# EAGLE library part ADSP_21368 (library analog-devices-3)
SHARC Processor Auto generated by make-symbol-device-package-bsdl.ulp Rev. 33 Source: 78445023821368_256ballSBGA_bsdl_PrA_0206.txt http://www.analog.com/static/imported-files/data_sheets/ADSP-21367_21368_21369.pdf
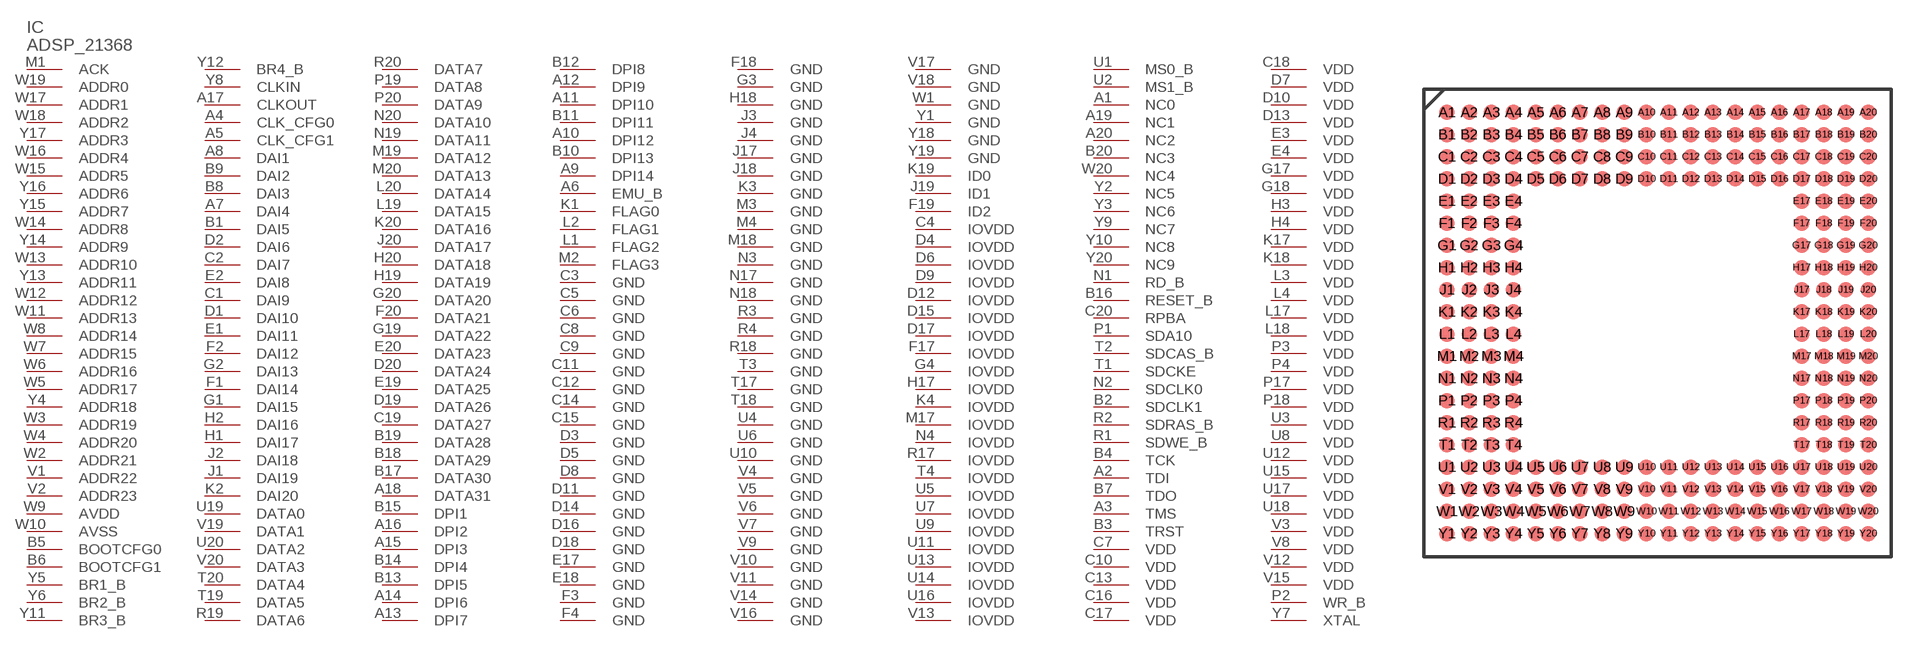
[diagram p132: symbol with the pads of BGA_256; footprint BGA_256]

Designator prefix IC

## ADSP_21368  [BGA_256]
A1  NC0  pas
A2  TDI  in
A3  TMS  in
A4  CLK_CFG0  in
A5  CLK_CFG1  in
A6  EMU_B  out
A7  DAI4
A8  DAI1
A9  DPI14
A10  DPI12
A11  DPI10
A12  DPI9
A13  DPI7
A14  DPI6
A15  DPI3
A16  DPI2
A17  CLKOUT  out
A18  DATA31
A19  NC1  pas
A20  NC2  pas
B1  DAI5
B2  SDCLK1
B3  TRST  in
B4  TCK  in
B5  BOOTCFG0  in
B6  BOOTCFG1  in
B7  TDO  out
B8  DAI3
B9  DAI2
B10  DPI13
B11  DPI11
B12  DPI8
B13  DPI5
B14  DPI4
B15  DPI1
B16  RESET_B  in
B17  DATA30
B18  DATA29
B19  DATA28
B20  NC3  pas
C1  DAI9
C2  DAI7
C3  GND  pwr
C4  IOVDD  pwr
C5  GND  pwr
C6  GND  pwr
C7  VDD  pwr
C8  GND  pwr
C9  GND  pwr
C10  VDD  pwr
C11  GND  pwr
C12  GND  pwr
C13  VDD  pwr
C14  GND  pwr
C15  GND  pwr
C16  VDD  pwr
C17  VDD  pwr
C18  VDD  pwr
C19  DATA27
C20  RPBA  in
D1  DAI10
D2  DAI6
D3  GND  pwr
D4  IOVDD  pwr
D5  GND  pwr
D6  IOVDD  pwr
D7  VDD  pwr
D8  GND  pwr
D9  IOVDD  pwr
D10  VDD  pwr
D11  GND  pwr
D12  IOVDD  pwr
D13  VDD  pwr
D14  GND  pwr
D15  IOVDD  pwr
D16  GND  pwr
D17  IOVDD  pwr
D18  GND  pwr
D19  DATA26
D20  DATA24
E1  DAI11
E2  DAI8
E3  VDD  pwr
E4  VDD  pwr
E17  GND  pwr
E18  GND  pwr
E19  DATA25
E20  DATA23
F1  DAI14
F2  DAI12
F3  GND  pwr
F4  GND  pwr
F17  IOVDD  pwr
F18  GND  pwr
F19  ID2  in
F20  DATA21
G1  DAI15
G2  DAI13
G3  GND  pwr
G4  IOVDD  pwr
G17  VDD  pwr
G18  VDD  pwr
G19  DATA22
G20  DATA20
H1  DAI17
H2  DAI16
H3  VDD  pwr
H4  VDD  pwr
H17  IOVDD  pwr
H18  GND  pwr
H19  DATA19
H20  DATA18
J1  DAI19
J2  DAI18
J3  GND  pwr
J4  GND  pwr
J17  GND  pwr
J18  GND  pwr
J19  ID1  in
J20  DATA17
K1  FLAG0
K2  DAI20
K3  GND  pwr
K4  IOVDD  pwr
K17  VDD  pwr
K18  VDD  pwr
K19  ID0  in
K20  DATA16
L1  FLAG2
L2  FLAG1
L3  VDD  pwr
L4  VDD  pwr
L17  VDD  pwr
L18  VDD  pwr
L19  DATA15
L20  DATA14
M1  ACK  in
M2  FLAG3
M3  GND  pwr
M4  GND  pwr
M17  IOVDD  pwr
M18  GND  pwr
M19  DATA12
M20  DATA13
N1  RD_B  out
N2  SDCLK0
N3  GND  pwr
N4  IOVDD  pwr
N17  GND  pwr
N18  GND  pwr
N19  DATA11
N20  DATA10
P1  SDA10  out
P2  WR_B  out
P3  VDD  pwr
P4  VDD  pwr
P17  VDD  pwr
P18  VDD  pwr
P19  DATA8
P20  DATA9
R1  SDWE_B  out
R2  SDRAS_B  out
R3  GND  pwr
R4  GND  pwr
R17  IOVDD  pwr
R18  GND  pwr
R19  DATA6
R20  DATA7
T1  SDCKE  out
T2  SDCAS_B  out
T3  GND  pwr
T4  IOVDD  pwr
T17  GND  pwr
T18  GND  pwr
T19  DATA5
T20  DATA4
U1  MS0_B  out
U2  MS1_B  out
U3  VDD  pwr
U4  GND  pwr
U5  IOVDD  pwr
U6  GND  pwr
U7  IOVDD  pwr
U8  VDD  pwr
U9  IOVDD  pwr
U10  GND  pwr
U11  IOVDD  pwr
U12  VDD  pwr
U13  IOVDD  pwr
U14  IOVDD  pwr
U15  VDD  pwr
U16  IOVDD  pwr
U17  VDD  pwr
U18  VDD  pwr
U19  DATA0
U20  DATA2
V1  ADDR22  out
V2  ADDR23  out
V3  VDD  pwr
V4  GND  pwr
V5  GND  pwr
V6  GND  pwr
V7  GND  pwr
V8  VDD  pwr
V9  GND  pwr
V10  GND  pwr
V11  GND  pwr
V12  VDD  pwr
V13  IOVDD  pwr
V14  GND  pwr
V15  VDD  pwr
V16  GND  pwr
V17  GND  pwr
V18  GND  pwr
V19  DATA1
V20  DATA3
W1  GND  pwr
W2  ADDR21  out
W3  ADDR19  out
W4  ADDR20  out
W5  ADDR17  out
W6  ADDR16  out
W7  ADDR15  out
W8  ADDR14  out
W9  AVDD  pwr
W10  AVSS  pwr
W11  ADDR13  out
W12  ADDR12  out
W13  ADDR10  out
W14  ADDR8  out
W15  ADDR5  out
W16  ADDR4  out
W17  ADDR1  out
W18  ADDR2  out
W19  ADDR0  out
W20  NC4  pas
Y1  GND  pwr
Y2  NC5  pas
Y3  NC6  pas
Y4  ADDR18  out
Y5  BR1_B
Y6  BR2_B
Y7  XTAL  out
Y8  CLKIN  in
Y9  NC7  pas
Y10  NC8  pas
Y11  BR3_B
Y12  BR4_B
Y13  ADDR11  out
Y14  ADDR9  out
Y15  ADDR7  out
Y16  ADDR6  out
Y17  ADDR3  out
Y18  GND  pwr
Y19  GND  pwr
Y20  NC9  pas

## Footprint BGA_256 (pad centres in mm)
256-Ball Ball Grid Array, Thermally Enhanced BGA_ED Auto generated by make-symbol-device-package-bsdl.ulp Rev. 33 Source: 78445023821368_256ballSBGA_bsdl_PrA_0206.txt http://www.analog.com/static/imported-files/data_sheets/ADSP-21367_21368_21369.pdf
smd 0.9 x 0.9: A1 -12.065,12.065; A2 -10.795,12.065; A3 -9.525,12.065; A4 -8.255,12.065; A5 -6.985,12.065; A6 -5.715,12.065; A7 -4.445,12.065; A8 -3.175,12.065; A9 -1.905,12.065; A10 -0.635,12.065; A11 0.635,12.065; A12 1.905,12.065; A13 3.175,12.065; A14 4.445,12.065; A15 5.715,12.065; A16 6.985,12.065; A17 8.255,12.065; A18 9.525,12.065; A19 10.795,12.065; A20 12.065,12.065; B1 -12.065,10.795; B2 -10.795,10.795; B3 -9.525,10.795; B4 -8.255,10.795; B5 -6.985,10.795; B6 -5.715,10.795; B7 -4.445,10.795; B8 -3.175,10.795; B9 -1.905,10.795; B10 -0.635,10.795; B11 0.635,10.795; B12 1.905,10.795; B13 3.175,10.795; B14 4.445,10.795; B15 5.715,10.795; B16 6.985,10.795; B17 8.255,10.795; B18 9.525,10.795; B19 10.795,10.795; B20 12.065,10.795; C1 -12.065,9.525; C2 -10.795,9.525; C3 -9.525,9.525; C4 -8.255,9.525; C5 -6.985,9.525; C6 -5.715,9.525; C7 -4.445,9.525; C8 -3.175,9.525; C9 -1.905,9.525; C10 -0.635,9.525; C11 0.635,9.525; C12 1.905,9.525; C13 3.175,9.525; C14 4.445,9.525; C15 5.715,9.525; C16 6.985,9.525; C17 8.255,9.525; C18 9.525,9.525; C19 10.795,9.525; C20 12.065,9.525; D1 -12.065,8.255; D2 -10.795,8.255; D3 -9.525,8.255; D4 -8.255,8.255; D5 -6.985,8.255; D6 -5.715,8.255; D7 -4.445,8.255; D8 -3.175,8.255; D9 -1.905,8.255; D10 -0.635,8.255; D11 0.635,8.255; D12 1.905,8.255; D13 3.175,8.255; D14 4.445,8.255; D15 5.715,8.255; D16 6.985,8.255; D17 8.255,8.255; D18 9.525,8.255; D19 10.795,8.255; D20 12.065,8.255; E1 -12.065,6.985; E2 -10.795,6.985; E3 -9.525,6.985; E4 -8.255,6.985; E17 8.255,6.985; E18 9.525,6.985; E19 10.795,6.985; E20 12.065,6.985; F1 -12.065,5.715; F2 -10.795,5.715; F3 -9.525,5.715; F4 -8.255,5.715; F17 8.255,5.715; F18 9.525,5.715; F19 10.795,5.715; F20 12.065,5.715; G1 -12.065,4.445; G2 -10.795,4.445; G3 -9.525,4.445; G4 -8.255,4.445; G17 8.255,4.445; G18 9.525,4.445; G19 10.795,4.445; G20 12.065,4.445; H1 -12.065,3.175; H2 -10.795,3.175; H3 -9.525,3.175; H4 -8.255,3.175; H17 8.255,3.175; H18 9.525,3.175; H19 10.795,3.175; H20 12.065,3.175; J1 -12.065,1.905; J2 -10.795,1.905; J3 -9.525,1.905; J4 -8.255,1.905; J17 8.255,1.905; J18 9.525,1.905; J19 10.795,1.905; J20 12.065,1.905; K1 -12.065,0.635; K2 -10.795,0.635; K3 -9.525,0.635; K4 -8.255,0.635; K17 8.255,0.635; K18 9.525,0.635; K19 10.795,0.635; K20 12.065,0.635; L1 -12.065,-0.635; L2 -10.795,-0.635; L3 -9.525,-0.635; L4 -8.255,-0.635; L17 8.255,-0.635; L18 9.525,-0.635; L19 10.795,-0.635; L20 12.065,-0.635; M1 -12.065,-1.905; M2 -10.795,-1.905; M3 -9.525,-1.905; M4 -8.255,-1.905; M17 8.255,-1.905; M18 9.525,-1.905; M19 10.795,-1.905; M20 12.065,-1.905; N1 -12.065,-3.175; N2 -10.795,-3.175; N3 -9.525,-3.175; N4 -8.255,-3.175; N17 8.255,-3.175; N18 9.525,-3.175; N19 10.795,-3.175; N20 12.065,-3.175; P1 -12.065,-4.445; P2 -10.795,-4.445; P3 -9.525,-4.445; P4 -8.255,-4.445; P17 8.255,-4.445; P18 9.525,-4.445; P19 10.795,-4.445; P20 12.065,-4.445; R1 -12.065,-5.715; R2 -10.795,-5.715; R3 -9.525,-5.715; R4 -8.255,-5.715; R17 8.255,-5.715; R18 9.525,-5.715; R19 10.795,-5.715; R20 12.065,-5.715; T1 -12.065,-6.985; T2 -10.795,-6.985; T3 -9.525,-6.985; T4 -8.255,-6.985; T17 8.255,-6.985; T18 9.525,-6.985; T19 10.795,-6.985; T20 12.065,-6.985; U1 -12.065,-8.255; U2 -10.795,-8.255; U3 -9.525,-8.255; U4 -8.255,-8.255; U5 -6.985,-8.255; U6 -5.715,-8.255; U7 -4.445,-8.255; U8 -3.175,-8.255; U9 -1.905,-8.255; U10 -0.635,-8.255; U11 0.635,-8.255; U12 1.905,-8.255; U13 3.175,-8.255; U14 4.445,-8.255; U15 5.715,-8.255; U16 6.985,-8.255; U17 8.255,-8.255; U18 9.525,-8.255; U19 10.795,-8.255; U20 12.065,-8.255; V1 -12.065,-9.525; V2 -10.795,-9.525; V3 -9.525,-9.525; V4 -8.255,-9.525; V5 -6.985,-9.525; V6 -5.715,-9.525; V7 -4.445,-9.525; V8 -3.175,-9.525; V9 -1.905,-9.525; V10 -0.635,-9.525; V11 0.635,-9.525; V12 1.905,-9.525; V13 3.175,-9.525; V14 4.445,-9.525; V15 5.715,-9.525; V16 6.985,-9.525; V17 8.255,-9.525; V18 9.525,-9.525; V19 10.795,-9.525; V20 12.065,-9.525; W1 -12.065,-10.795; W2 -10.795,-10.795; W3 -9.525,-10.795; W4 -8.255,-10.795; W5 -6.985,-10.795; W6 -5.715,-10.795; W7 -4.445,-10.795; W8 -3.175,-10.795; W9 -1.905,-10.795; W10 -0.635,-10.795; W11 0.635,-10.795; W12 1.905,-10.795; W13 3.175,-10.795; W14 4.445,-10.795; W15 5.715,-10.795; W16 6.985,-10.795; W17 8.255,-10.795; W18 9.525,-10.795; W19 10.795,-10.795; W20 12.065,-10.795; Y1 -12.065,-12.065; Y2 -10.795,-12.065; Y3 -9.525,-12.065; Y4 -8.255,-12.065; Y5 -6.985,-12.065; Y6 -5.715,-12.065; Y7 -4.445,-12.065; Y8 -3.175,-12.065; Y9 -1.905,-12.065; Y10 -0.635,-12.065; Y11 0.635,-12.065; Y12 1.905,-12.065; Y13 3.175,-12.065; Y14 4.445,-12.065; Y15 5.715,-12.065; Y16 6.985,-12.065; Y17 8.255,-12.065; Y18 9.525,-12.065; Y19 10.795,-12.065; Y20 12.065,-12.065